# Altium integrated library ECS-TXO-25CSMV-320-DY-TR.IntLib: 1 symbol
Pins are listed as number, name and electrical type; pins without a type are passive.

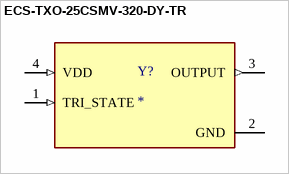
[diagram p0: symbol ECS-TXO-25CSMV-320-DY-TR]

## ECS-TXO-25CSMV-320-DY-TR
designator Y?
MP: ECS-TXO-25CSMV-320-DY-TR; Package: None; Price: None; Value: *; Availability: Unavailable
footprint OSC_ECS-TXO-25CSMV-320-DY-TR
pins: 1 TRI_STATE (in), 2 GND (power), 3 OUTPUT (out), 4 VDD (in)